# Altium footprint library Modelo_Footprint.PcbLib: 25 footprints (part 1 of 2)
Each footprint in its own frame and in the unit in brackets; x right, y up, seen from the top. Pads: shape width x height; smd on the part's side, far side on the other; paste and mask are expansions set on the pad; w line width, h text height; cw(c..) or ccw(c..) is an arc to the next point about the centre after c.
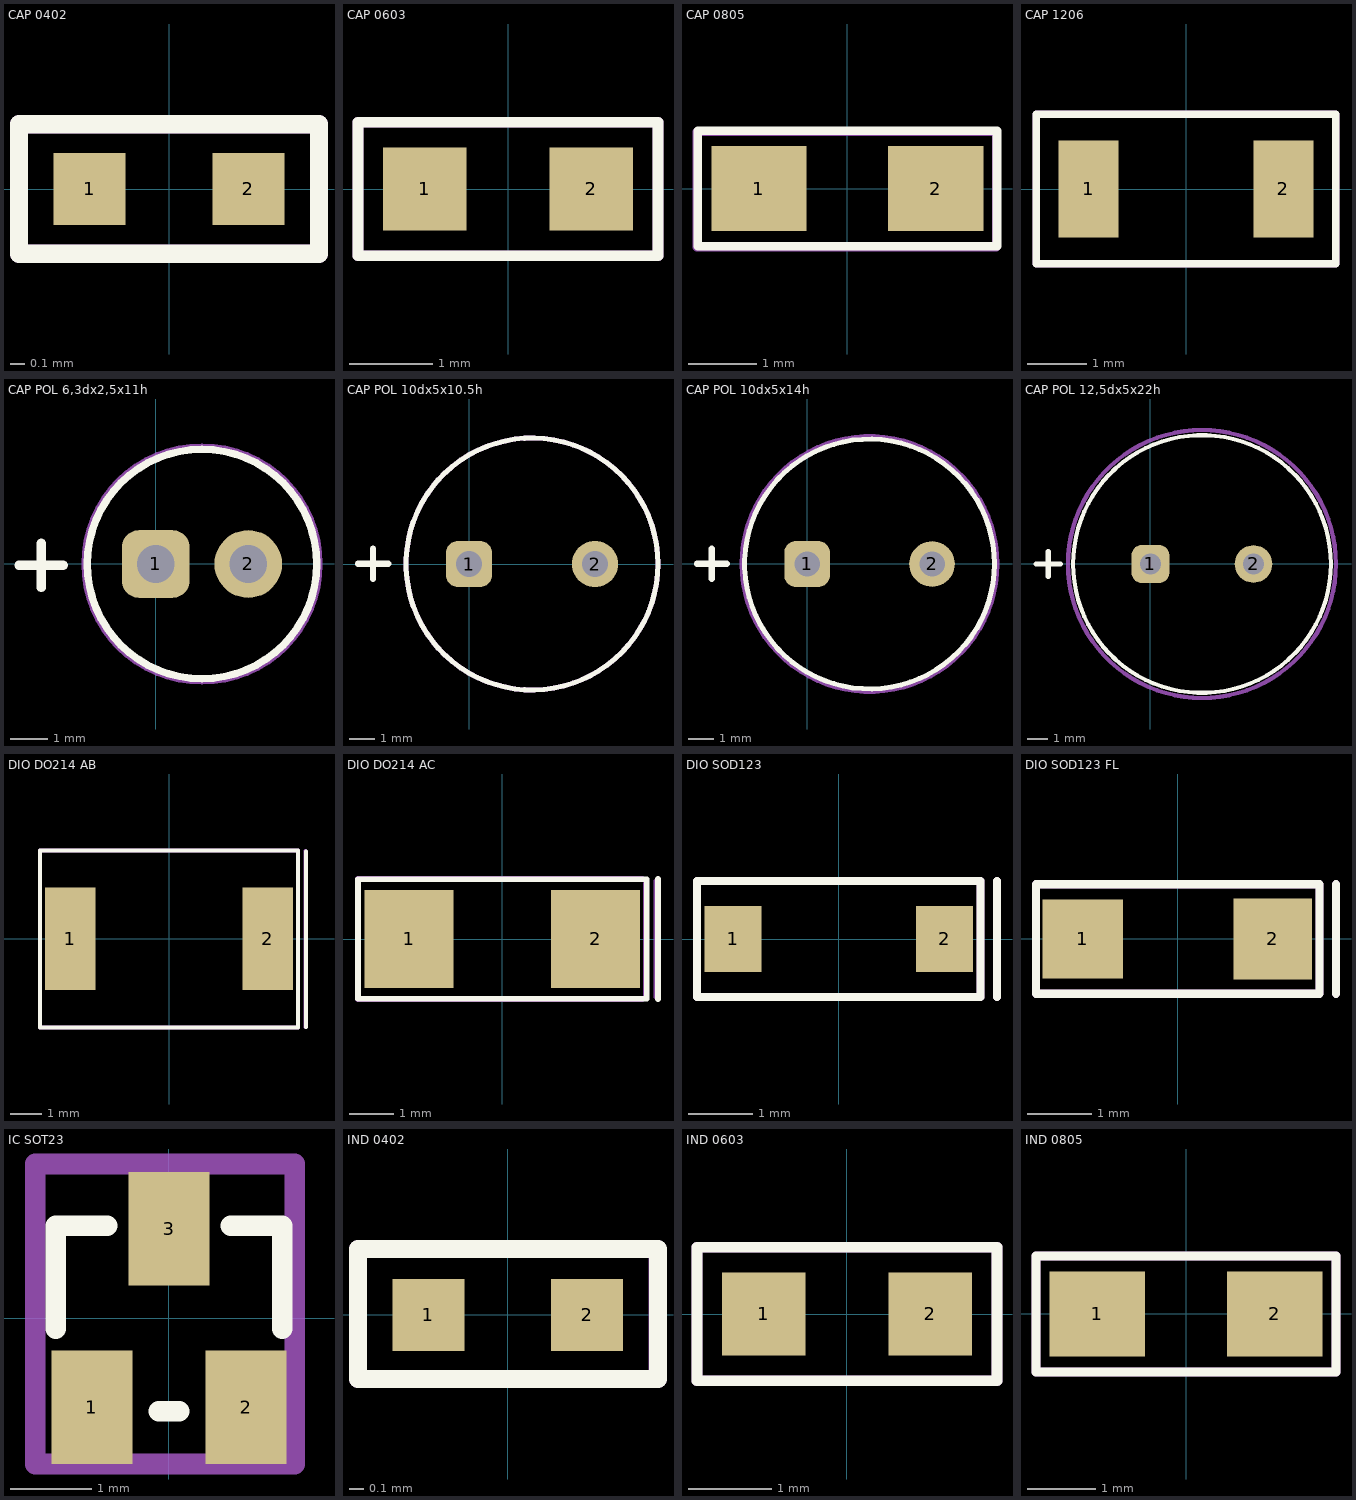
[diagram p0: the footprints below, top view; thin cyan lines are the x and y axes]

## CAP 0402 [mm] "CAPACITOR 0402"
height 0.22
pads (2):
  rect 0.5x0.5 smd mask+0.1: 1(-0.55,0) 2(0.55,0)
Top Overlay:
  lines w0.127: -1.04,-0.45 1.04,-0.45 1.04,0.45 -1.04,0.45 -1.04,-0.45
Top Assembly:
  lines w0.127: -1.04,-0.45 1.04,-0.45 1.04,0.45 -1.04,0.45 -1.04,-0.45
  text "'.Designator'" at -0.965,-0.152 h0.7
3D body "Capacitor_0402.stp": height 0.56, standoff 0.01, extent -0.525,-0.271 0.525,0.279
3D body: height 0.25, standoff 0, extent 0,0 0,0

## CAP 0603 [mm] "CAPACITOR 0603"
height 1
pads (2):
  rect 1x1 smd mask+0.1: 1(-1,0) 2(1,0)
Top Overlay:
  lines w0.127: -1.8,-0.8 -1.8,0.8 1.8,0.8 1.8,-0.8 -1.8,-0.8
Top Assembly:
  lines w0.127: -1.8,-0.8 1.8,-0.8 1.8,0.8 -1.8,0.8 -1.8,-0.8
  text "'.Designator'" at -1.676,-0.178 h1.27
3D body "capacitor_0603.stp": height 0.88, standoff 0.01, extent -0.875,-0.467 0.875,0.483

## CAP 0805 [mm] "CAPACITOR 0805"
height 1
pads (2):
  rect 1.4x1.25 smd mask+0.1: 1(-1.3,0) 2(1.3,0)
Top Overlay:
  lines w0.127: -2.2,-0.85 -2.2,0.85 2.2,0.85 2.2,-0.85 -2.2,-0.85
Top Assembly:
  lines w0.127: -2.21,-0.864 2.19,-0.864 2.19,0.836 -2.21,0.836 -2.21,-0.864
  text "'.Designator'" at -1.524,-0.254 h1.27
3D body: height 1.45, standoff 0, extent -0.6,-0.725 0.6,0.725
3D body: height 1.45, standoff 0, extent -1.1,-0.725 -0.6,0.725
3D body: height 1.45, standoff 0, extent 0.6,-0.725 1.1,0.725

## CAP 1206 [mm] "CAPACITOR 1206"
height 1
pads (2):
  rect 1.02x1.65 smd mask+0.1: 1(-1.65,0) 2(1.65,0)
Top Overlay:
  lines w0.127: -2.54,-1.27 2.54,-1.27 2.54,1.27 -2.54,1.27 -2.54,-1.27
Top Assembly:
  lines w0.127: -2.54,-1.27 2.54,-1.27 2.54,1.27 -2.54,1.27 -2.54,-1.27
  text "'.Designator'" at -2.311,-0.356 h1.27
3D body "CAPC3216X18M.step": height 1.8, standoff 0, extent -1.7,-0.9 1.7,0.9

## CAP POL 6,3dx2,5x11h [mil] "CAP ALUM POL D=6,3mm P = 2,5mm h = 11mm"
pads (2):
  rrect50% 72x72 hole 40: 1(0,0)
  round 72 hole 40: 2(98.43,0)
Top Overlay:
  circle w7.87: c49.21,0 r122.05
  lines w10: -145.5,-1.5 -98.5,-1.5 ; -122,-25 -122,22
Top Assembly:
  circle w7.87: c49.21,0 r124.5
  text "'.Designator'" at -49.21,-19.68 h78.74
  text "+++" at -88.58,-59.06 h78.74
3D body "Cap electro 6_3x11x2_5mm.step": height 444.42, standoff -128.01, extent -75.8,-125.01 174.23,125.02

## CAP POL 10dx5x10.5h [mil] "CAP ALUM POL D=10mm P = 5mm h = 10.5mm"
pads (2):
  rrect50% 72x72 hole 40: 1(0,0)
  round 72 hole 40: 2(196.85,0)
Top Overlay:
  circle w7.87: c98.43,0 r196.85
  lines w10: -173.5,0.5 -126.5,0.5 ; -150,-23 -150,24
Top Assembly:
  circle w7.87: c98.43,0 r196.85
  text "+++" at -118.11,-59.06 h78.74
  text "'.Designator'" at -78.74,-19.68 h78.74
3D body: height 413.39, standoff 0, extent -98.43,-196.85 295.28,196.85

## CAP POL 10dx5x14h [mil] "CAP ALUM POL D=10mm P = 5mm h = 14mm"
pads (2):
  rrect50% 72x72 hole 40: 1(0,0)
  round 72 hole 40: 2(196.85,0)
Top Overlay:
  circle w7.87: c98.43,0 r196.85
  lines w10: -173.5,0.5 -126.5,0.5 ; -150,-23 -150,24
Top Assembly:
  circle w7.87: c98.42,0 r200.75
  text "'.Designator'" at -78.74,-19.68 h78.74
  text "+++" at -118.11,-59.06 h78.74
3D body "Cap electro 10x16x5_0mm.step": height 641.26, standoff -156.62, extent -99.42,-197.85 296.28,197.85

## CAP POL 12,5dx5x22h [mil] "CAP ALUM POL D=12,5mm P = 5mm h = 22mm"
pads (2):
  rrect50% 72x72 hole 40: 1(0,0)
  round 72 hole 40: 2(196.85,0)
Top Overlay:
  circle w7.87: c98.43,0 r246.06
  lines w10: -218.5,0 -171.5,0 ; -195,-23.5 -195,23.5
Top Assembly:
  circle w7.87: c98.42,0 r255.9
  text "+++" at -157.48,-59.06 h78.74
  text "'.Designator'" at -98.43,-19.68 h78.74
3D body "CAP_22x12,5x5.STEP": height 866.93, standoff -118.11, extent -147.64,-246.06 344.89,246.07

## DIO DO214 AB [mm] "DIODO DO214 AB"
height 1
pads (2):
  rect 1.6x3.27 smd mask+0.1: 1(-3.15,0) 2(3.15,0)
Top Overlay:
  lines w0.127: -4.115,2.781 -4.115,-2.819 4.115,-2.819 ; -4.115,2.819 4.115,2.819 ; 4.115,-2.8 4.115,2.8 ; 4.369,-2.806 4.369,2.794
Top Assembly:
  lines w0.127: -4.115,2.781 -4.115,-2.819 4.115,-2.819 ; -4.115,2.819 4.115,2.819 ; 4.115,-2.8 4.115,2.8 ; 4.359,-2.8 4.359,2.8
  text "'.Designator'" at -3.023,-0.356 h1.27
3D body: height 6, standoff 1, extent -2.2,-0.85 -2.2,-0.85
3D body "DO214AB_SMC.STEP": height 2.65, standoff 0.01, extent -4.064,-3.15 4.064,3.15

## DIO DO214 AC [mm] "DIODO DO214 AC"
height 1
pads (2):
  rect 2x2.2 smd mask+0.1: 1(-2.1,0) 2(2.1,0)
Top Overlay:
  lines w0.127: 3.505,-1.35 3.505,1.35 ; -3.251,-1.344 3.252,-1.35 3.252,1.343 3.252,1.348 -3.251,1.348 -3.251,-1.344
Top Assembly:
  lines w0.127: -3.251,-1.35 3.15,-1.35 ; -3.251,-1.348 -3.251,1.348 ; -3.251,1.35 3.15,1.35 ; 3.226,-1.295 3.226,1.249 ; 3.47,-1.3 3.47,1.3
  text "'.Designator'" at -3.023,-0.356 h1.27
3D body: height 6, standoff 1, extent -2.2,-0.85 -2.2,-0.85
3D body "DO214AC_SMA.STEP": height 2.3, standoff 0.01, extent -2.743,-1.397 2.743,1.397

## DIO SOD123 [mm] "DIODO SOD123"
height 1
pads (2):
  rect 0.88x1.02 smd mask+0.1: 1(-1.64,0) 2(1.64,0)
Top Overlay:
  lines w0.127: 2.454,-0.9 2.454,0.9 ; -2.2,-0.9 2.2,-0.9 2.2,0.9 -2.2,0.9 -2.2,-0.9
Top Assembly:
  lines w0.127: 2.454,-0.9 2.454,0.9 ; -2.2,-0.9 2.2,-0.9 2.2,0.9 -2.2,0.9 -2.2,-0.9
  text "'.Designator'" at -2.108,-0.33 h1.27
3D body "SOD123.STEP": height 1.28, standoff 0.01, extent -1.85,-0.8 1.85,0.8

## DIO SOD123 FL [mm] "DIODO SOD123 FL"
height 1
pads (2):
  rect 1.25x1.22 smd mask+0.1: 1(-1.475,0)
  rect 1.22x1.25 smd mask+0.1: 2(1.475,0)
Top Overlay:
  lines w0.127: 2.454,-0.85 2.454,0.85 ; -2.2,-0.85 2.2,-0.85 2.2,0.85 -2.2,0.85 -2.2,-0.85
Top Assembly:
  lines w0.127: 2.454,-0.85 2.454,0.85 ; -2.2,-0.85 2.2,-0.85 2.2,0.85 -2.2,0.85 -2.2,-0.85
  text "'.Designator'" at -2.083,-0.432 h1.27
3D body "SOD123FL.STEP": height 0.96, standoff 0.02, extent -1.794,-0.825 1.794,0.825
3D body: height 6, standoff 1, extent -2.2,-0.85 -2.2,-0.85

## IC SOT23 [mm]
pads (3):
  rect 1x1.4 smd: 1(-0.95,-1.1) 2(0.95,-1.1) 3(0,1.1)
Top Overlay:
  lines w0.254: -1.397,-0.134 -1.397,1.136 -0.762,1.136 ; -0.127,-1.15 0.127,-1.15 ; 0.762,1.136 1.397,1.136 1.397,-0.134
Top Assembly:
  lines w0.254: -1.65,-1.8 -1.65,1.9 1.55,1.9 1.55,-1.8 -1.65,-1.8
  text "'.Designator'" at -1.483,-0.186 h1.27
3D body "SOT-23.step": height 1.01, standoff -0.09, extent -1.5,-1.25 1.5,1.25

## IND 0402 [mm] "INDUTOR 0402"
height 1
pads (2):
  rect 0.5x0.5 smd mask+0.1: 1(-0.55,0) 2(0.55,0)
Top Overlay:
  lines w0.127: -1.038,0.456 -1.038,-0.444 1.041,-0.444 1.041,0.457 -1.016,0.457
Top Assembly:
  lines w0.127: -1.038,0.456 -1.038,-0.444 1.042,-0.444 ; -1.016,0.457 1.038,0.457 1.038,-0.444
  text "'.Designator'" at -1.016,-0.33 h1.27
3D body "Coilcraft-0402AF.step": height 0.67, standoff 0.01, extent -0.56,-0.256 0.56,0.256
3D body: height 6, standoff 1, extent 0.635,-1.27 0.635,-1.27

## IND 0603 [mm] "INDUTOR 0603"
height 1
pads (2):
  rect 1x1 smd mask+0.1: 1(-1,0) 2(1,0)
Top Overlay:
  lines w0.127: -1.8,-0.8 -1.8,0.8 1.8,0.8 1.8,-0.8 -1.8,-0.8
Top Assembly:
  lines w0.127: -1.8,-0.8 1.8,-0.8 1.8,0.8 -1.8,0.8 -1.8,-0.8
  text "'.Designator'" at -1.676,-0.178 h1.27
3D body: height 6, standoff 1, extent 0.635,-1.27 0.635,-1.27
3D body "Indutor_0603.stp": height 0.46, standoff 0.01, extent -0.8,-0.394 0.8,0.406

## IND 0805 [mm] "INDUTOR 0805"
height 1
pads (2):
  rect 1.4x1.25 smd mask+0.1: 1(-1.3,0) 2(1.3,0)
Top Overlay:
  lines w0.127: -2.2,-0.85 -2.2,0.85 2.2,0.85 2.2,-0.85 -2.2,-0.85
Top Assembly:
  lines w0.127: -2.2,-0.85 -2.2,0.85 2.2,0.85 2.2,-0.85 -2.2,-0.85
  text "'.Designator'" at -1.676,-0.178 h1.27
3D body: height 6, standoff 1, extent -2.2,-0.85 -2.2,-0.85
3D body "Indutor_0805.stp": height 0.51, standoff 0.01, extent -1,-0.625 1,0.625